# Altium integrated library LT Peripheral Switch Controller.IntLib: 1 symbol
Pins are listed as number, name and electrical type; pins without a type are passive.

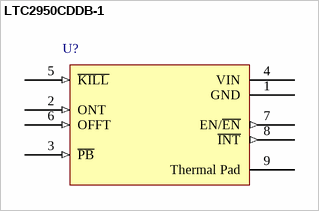
[diagram p0: symbol LTC2950CDDB-1]

## LTC2950CDDB-1
designator U?
Push Button On/Off Controller; Note: 1915; Published: 30-May-2008; DatasheetVersion: Feb-2008; PackageVersion: Rev B, Sep-2005; PackageReference: DDB8; Publisher: Altium Limited; PackageDescription: 8-Pin Plastic DFN, 3 x 2 x 0.8 mm Body, 0.5 mm Pitch, No Pullback, Exposed Pad (DDB8); Code_JEDEC: MO-229-WECD-1; ComponentLink1Description: Manufacturer Link; ComponentLink1URL: http://www.linear.com/; ComponentLink2Description: Datasheet; ComponentLink2URL: http://www.linear.com/pc/downloadDocument.do?navId=H0,C1,C1003,C1144,C1783,P10330,D7377
footprint DDB8 (SON, 8-Leads, Body 3x2 mm, Pitch 0.5mm, Linear Recommended)
pins: 1 GND (power), 2 ONT (in), 3 ~{PB} (in), 4 VIN (power), 5 ~{KILL} (in), 6 OFFT (in), 7 EN/~{EN} (out), 8 ~{INT} (out), 9 Thermal Pad